# Altium integrated library WE-TMSB Tiny Multilayer Suppression Bead.IntLib: 4 symbols
Pins are listed as number, name and electrical type; pins without a type are passive.

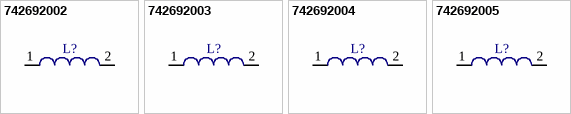
[diagram p0: symbols 742692002 to 742692005]

## 742692002
designator L?
Tiny Multilayer Suppression  Bead  WE-TMSB, Z= 60 Ohm; PartNumber: 742692002; Impedance: 60 Ohm; PackageReference: WE-TMSB 0201; ComponentLink1Description: Manufacturer URL; ComponentLink1URL: http://www.we-online.com; ComponentLink2Description: Datasheet; ComponentLink2URL: http://www.we-online.de/katalog/media/pdf/742692002.pdf
footprint WE-TMSB 0201 (Chip Inductor, 2-Leads, Body 0.6x0.3mm, IPC Medium Density)
pins: 1, 2

## 742692003
designator L?
Tiny Multilayer Suppression  Bead  WE-TMSB, Z= 120 Ohm; PartNumber: 742692003; Impedance: 120 Ohm; PackageReference: WE-TMSB 0201; ComponentLink1Description: Manufacturer URL; ComponentLink1URL: http://www.we-online.com; ComponentLink2Description: Datasheet; ComponentLink2URL: http://www.we-online.de/katalog/media/pdf/742692003.pdf
footprint WE-TMSB 0201 (Chip Inductor, 2-Leads, Body 0.6x0.3mm, IPC Medium Density)
pins: 1, 2

## 742692004
designator L?
Tiny Multilayer Suppression  Bead  WE-TMSB, Z= 240 Ohm; PartNumber: 742692004; Impedance: 240 Ohm; PackageReference: WE-TMSB 0201; ComponentLink1Description: Manufacturer URL; ComponentLink1URL: http://www.we-online.com; ComponentLink2Description: Datasheet; ComponentLink2URL: http://www.we-online.de/katalog/media/pdf/742692004.pdf
footprint WE-TMSB 0201 (Chip Inductor, 2-Leads, Body 0.6x0.3mm, IPC Medium Density)
pins: 1, 2

## 742692005
designator L?
Tiny Multilayer Suppression  Bead  WE-TMSB, Z= 300 Ohm; PartNumber: 742692005; Impedance: 300 Ohm; PackageReference: WE-TMSB 0201; ComponentLink1Description: Manufacturer URL; ComponentLink1URL: http://www.we-online.com; ComponentLink2Description: Datasheet; ComponentLink2URL: http://www.we-online.de/katalog/media/pdf/742692005.pdf
footprint WE-TMSB 0201 (Chip Inductor, 2-Leads, Body 0.6x0.3mm, IPC Medium Density)
pins: 1, 2